# EAGLE library part LCD_SOCKET (library open_hw_sockets)
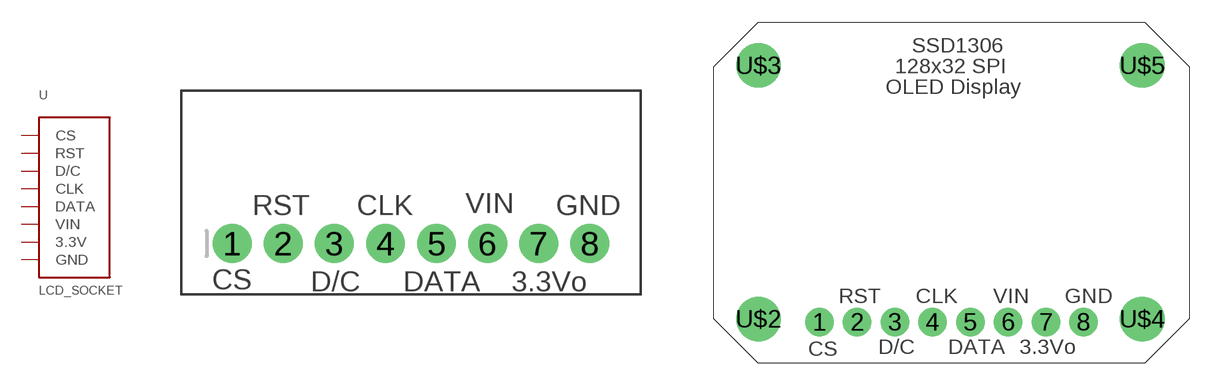
[diagram p3: symbol with the pads of LCD_SOCKET; footprints LCD_SOCKET, TEST_LCD]

Designator prefix -

## LCD_SOCKET  [LCD_SOCKET]
1  CS  in
2  RST  in
3  D/C  in
4  CLK  in
5  DATA
6  VIN  pwr
7  3.3V  pwr
8  GND  pwr

## LCD_SOCKETTEST  [TEST_LCD]
1  CS  in
2  RST  in
3  D/C  in
4  CLK  in
5  DATA
6  VIN  pwr
7  3.3V  pwr
8  GND  pwr
U$2  GND  pwr
U$3  GND  pwr
U$4  GND  pwr
U$5  GND  pwr

## Footprint LCD_SOCKET (pad centres in mm)
drill 1 pad 1.93: 1 -8.89,0; 2 -6.35,0; 3 -3.81,0; 4 -1.27,0; 5 1.27,0; 6 3.81,0; 7 6.35,0; 8 8.89,0

## Footprint TEST_LCD (pad centres in mm)
drill 0.8 pad 1.93: 1 7.11,2.794; 2 9.65,2.794; 3 12.19,2.794; 4 14.73,2.794; 5 17.27,2.794; 6 19.81,2.794; 7 22.35,2.794; 8 24.89,2.794
drill 0.8 pad 3: U$2 3,3; U$3 3,20.08; U$4 28.84,3; U$5 28.84,20.08